# Altium schematic symbol library Keyboard.SchLib: 21 symbols
Pins are listed as number, name and electrical type; pins without a type are passive.

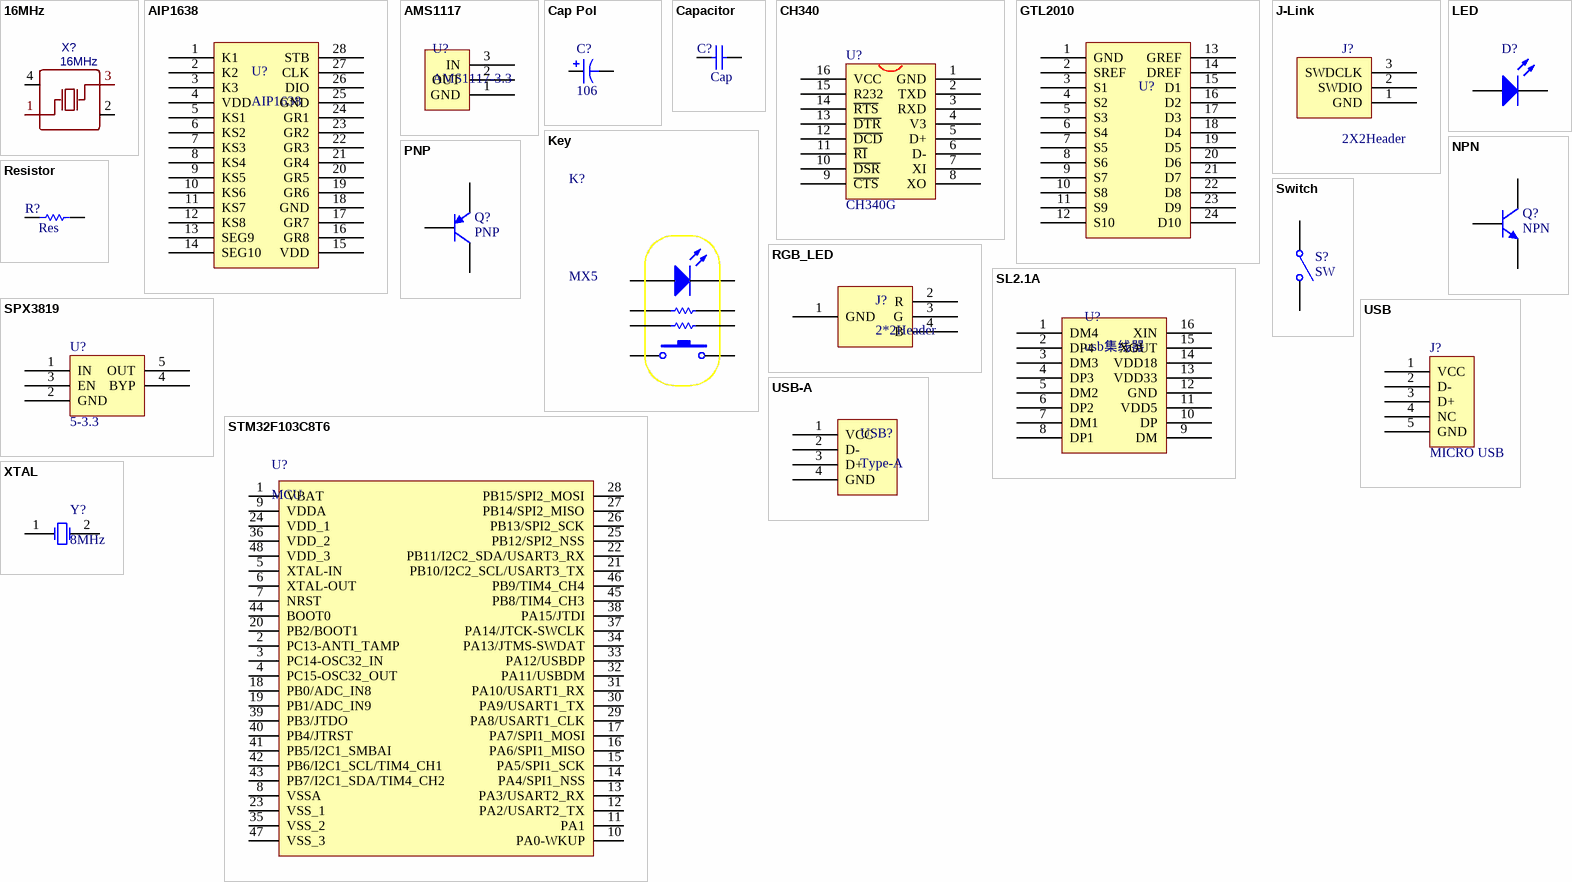
[diagram p0: symbols 16MHz to XTAL]

## 16MHz
designator X?
BOM_Manufacturer: EPSON; BOM_Manufacturer Part: X1E000021011900; nameAlias: Frequency; Contributor: LCSC; SMT Type: Extend; BOM_Supplier: LCSC; BOM_Supplier Part: C89371; BOM_LCSC Assembly: Yes; spicePre: X; spiceSymbolName: X1E000021011900
footprint 3225
pins: 1 OSC1, 2 GND, 3 OSC2, 4 GND

## AIP1638
designator U?
pins: 1 K1, 2 K2, 3 K3, 4 VDD, 5 KS1, 6 KS2, 7 KS3, 8 KS4, 9 KS5, 10 KS6, 11 KS7, 12 KS8, 13 SEG9, 14 SEG10, 15 VDD, 16 GR8, 17 GR7, 18 GND, 19 GR6, 20 GR5, 21 GR4, 22 GR3, 23 GR2, 24 GR1, 25 GND, 26 DIO, 27 CLK, 28 STB

## AMS1117
designator U?, comment AMS1117-3.3
footprint LC-SOT-223
pins: 1 GND, 2 OUT, 3 IN

## Cap Pol
designator C?, comment 106
Polarized Capacitor (Axial); Value: 100pF; Published: 8-Jun-2000; LatestRevisionDate: 17-Jul-2002; LatestRevisionNote: Re-released for DXP Platform.; PackageReference: POLAR0.8; Publisher: Altium Limited; PackageDescription: Polarized Capacitor; 2 Leads
footprint POLAR0.8 (Polarized Capacitor; 2 Leads)
simulation model CAP (Capacitor)
signal-integrity model Cap Pol
footprint LC-CASE-A_3216
pins: 1, 2
1 alternate drawing of the same symbol

## Capacitor
designator C?, comment Cap
Capacitor; Value: 22pF; Published: 8-Jun-2000; LatestRevisionDate: 17-Jul-2002; LatestRevisionNote: Re-released for DXP Platform.; PackageReference: RAD-0.3; Publisher: Altium Limited; PackageDescription: Radial Cap, Thru-Hole; 2 Leads; 0.3 in Pin Spacing
footprint LC-1206_C
pins: 1, 2

## CH340
designator U?, comment CH340G
footprint LC-SOP-16_150mil
pins: 1 GND, 2 TXD, 3 RXD, 4 V3, 5 D+, 6 D-, 7 XI, 8 XO, 9 ~{CTS}, 10 ~{DSR}, 11 ~{RI}, 12 ~{DCD}, 13 ~{DTR}, 14 ~{RTS}, 15 R232, 16 VCC

## GTL2010
designator U?
footprint tssop24
pins: 1 GND, 2 SREF, 3 S1, 4 S2, 5 S3, 6 S4, 7 S5, 8 S6, 9 S7, 10 S8, 11 S9, 12 S10, 13 GREF, 14 DREF, 15 D1, 16 D2, 17 D3, 18 D4, 19 D5, 20 D6, 21 D7, 22 D8, 23 D9, 24 D10

## J-Link
designator J?, comment 2X2Header
footprint IDE3
pins: 1 GND, 2 SWDIO, 3 SWDCLK

## Key
designator K?, comment MX5
510R
footprint Key
footprint MX5F - 2
pins: 1 A, 2 K, 3 A, 4 1, 5 2, 6 K, 7 K, 8 K

## LED
designator D?  (value not drawn)
Typical INFRARED GaAs LED; Published: 8-Jun-2000; LatestRevisionDate: 08-Jul-2005; LatestRevisionNote: Mech Layer 1 removed.; PackageReference: LED-0; Publisher: Altium Limited; PackageDescription: LED; 2 Leads
footprint 0805
footprint LC-0603_LED_S3
pins: A 1, K 2

## NPN
designator Q?
NPN Bipolar Transistor; Published: 8-Jun-2000; LatestRevisionDate: 17-Jul-2002; LatestRevisionNote: Re-released for DXP Platform.; PackageReference: TO-226-AA; Publisher: Altium Limited; PackageDescription: TO, Flat Index; 3 In-Line, Axial Leads; Body Dia. 4.8mm; Leads 0.55 x 0.51 mm (max); Code_JEDEC: TO-226-AA
footprint LC-SOT-23(SOT-23-3)
simulation model NPN
signal-integrity model NPN
pins: 1 C, 2 B, 3 E

## PNP
designator Q?
PNP Bipolar Transistor; Published: 8-Jun-2000; LatestRevisionDate: 29-May-2009; LatestRevisionNote: IPC-7351 Footprint Added.; PackageVersion: Aug-1999; PackageReference: SOT-23B; Publisher: Altium Limited; PackageDescription: 3-Pin SOT-23 Package 0.95 mm Pitch, 2.4 mm Lead Span
footprint SOT-23B_N (SOT23, 3-Leads, Body 2.9x1.3mm, Pitch 0.95mm, Lead Span 2.4mm, IPC Medium Density)
footprint SOT-23B_L (SOT23, 3-Leads, Body 2.9x1.3mm, Pitch 0.95mm, Lead Span 2.4mm, IPC High Density)
footprint SOT-23B_M (SOT23, 3-Leads, Body 2.9x1.3mm, Pitch 0.95mm, Lead Span 2.4mm, IPC Low Density)
simulation model PNP
signal-integrity model PNP
footprint LC-SOT-23(SOT-23-3)
pins: 1 C, 2 B, 3 E

## Resistor
designator R?, comment Res
Resistor; Value: 150R; Published: 8-Jun-2000; LatestRevisionDate: 17-Jul-2002; LatestRevisionNote: Re-released for DXP Platform.; PackageReference: AXIAL-0.3; Publisher: Altium Limited; PackageDescription: Axial Device, Thru-Hole; 2 Leads; 0.3 in Pin Spacing
footprint 0805
footprint LC-1206_R
pins: 1, 2

## RGB_LED
designator J?, comment 2*2Header
footprint IDE4_2.54
footprint LED-SMD-1.6X1.5X0.6-YX3(4P)
pins: 1 GND, 2 R, 3 G, 4 B

## SL2.1A
designator U?, comment usb集线器
footprint LC-SOP-16_150mil
pins: 1 DM4, 2 DP4, 3 DM3, 4 DP3, 5 DM2, 6 DP2, 7 DM1, 8 DP1, 9 DM, 10 DP, 11 VDD5, 12 GND, 13 VDD33, 14 VDD18, 15 XOUT, 16 XIN

## SPX3819
designator U?, comment 5-3.3
SPX3819
footprint LC-SOT-23-5
pins: 1 IN, 2 GND, 3 EN, 4 BYP, 5 OUT

## STM32F103C8T6
designator U?, comment MCU
footprint lqfp48
pins: 1 VBAT, 2 PC13-ANTI_TAMP, 3 PC14-OSC32_IN, 4 PC15-OSC32_OUT, 5 XTAL-IN, 6 XTAL-OUT, 7 NRST, 8 VSSA, 9 VDDA, 10 PA0-WKUP, 11 PA1, 12 PA2/USART2_TX, 13 PA3/USART2_RX, 14 PA4/SPI1_NSS, 15 PA5/SPI1_SCK, 16 PA6/SPI1_MISO, 17 PA7/SPI1_MOSI, 18 PB0/ADC_IN8, 19 PB1/ADC_IN9, 20 PB2/BOOT1, 21 PB10/I2C2_SCL/USART3_TX, 22 PB11/I2C2_SDA/USART3_RX, 23 VSS_1, 24 VDD_1, 25 PB12/SPI2_NSS, 26 PB13/SPI2_SCK, 27 PB14/SPI2_MISO, 28 PB15/SPI2_MOSI, 29 PA8/USART1_CLK, 30 PA9/USART1_TX, 31 PA10/USART1_RX, 32 PA11/USBDM, 33 PA12/USBDP, 34 PA13/JTMS-SWDAT, 35 VSS_2, 36 VDD_2, 37 PA14/JTCK-SWCLK, 38 PA15/JTDI, 39 PB3/JTDO, 40 PB4/JTRST, 41 PB5/I2C1_SMBAI, 42 PB6/I2C1_SCL/TIM4_CH1, 43 PB7/I2C1_SDA/TIM4_CH2, 44 BOOT0, 45 PB8/TIM4_CH3, 46 PB9/TIM4_CH4, 47 VSS_3, 48 VDD_3

## Switch
designator S?, comment SW
Single-Pole, Single-Throw Switch
footprint SMT-KEY
footprint K2-1112SA-A4SW-01
pins: 1 COMMON, 2 NO

## USB
designator J?, comment MICRO USB
footprint Micro_USB
footprint MICRO-USB-2
pins: 1 VCC, 2 D-, 3 D+, 4 NC, 5 GND

## USB-A
designator USB?, comment Type-A
footprint USB A型
footprint USB (0.9mm焊盘 x 4)
pins: 1 VCC, 2 D-, 3 D+, 4 GND

## XTAL
designator Y?, comment 8MHz
Crystal Oscillator; Published: 8-Jun-2000; LatestRevisionDate: 17-Jul-2002; LatestRevisionNote: Re-released for DXP Platform.; PackageReference: R38; Publisher: Altium Limited; PackageDescription: Crystal, Thru-Hole; 2 Leads; Body 3.1 x 8.2 mm (Dia.xH)
footprint LC-HC-49S
footprint OSC-SMD_L5.0-W3.2-L
footprint OSC-SMD_4P-L3.2-W2.5-BL
footprint OSC-2x6-WI-B (脚距：1.6mm)
pins: 1 OSC1, 2 OSC2